# Altium footprint library PCBlib.PcbLib: 19 footprints (part 2 of 2)
Each footprint in its own frame and in the unit in brackets; x right, y up, seen from the top. Pads: shape width x height; smd on the part's side, far side on the other; paste and mask are expansions set on the pad; w line width, h text height; cw(c..) or ccw(c..) is an arc to the next point about the centre after c.
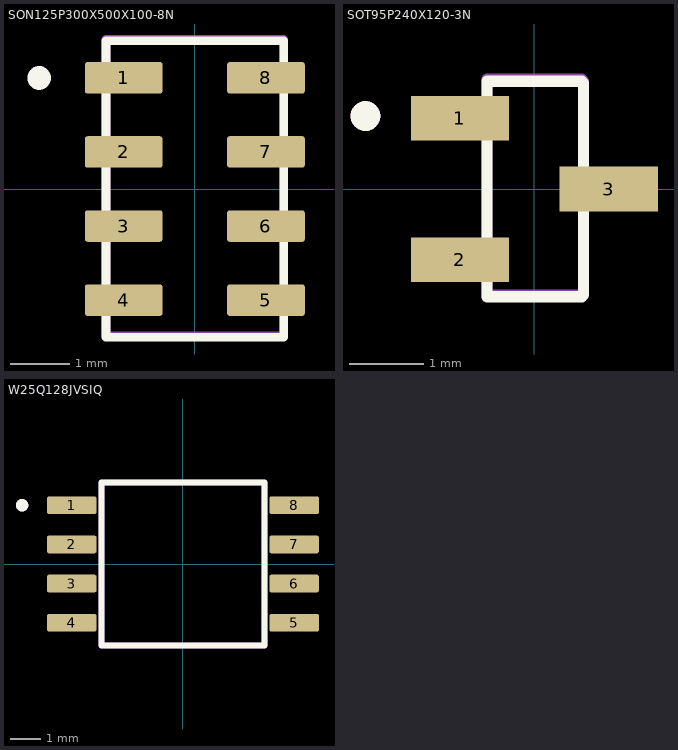
[diagram p1: the footprints below, top view; thin cyan lines are the x and y axes]

## SON125P300X500X100-8N [mm]
pads (8):
  rrect15% 1.31x0.53 smd: 1(-1.2,1.875)
  rrect16% 1.31x0.53 smd: 2(-1.2,0.625) 3(-1.2,-0.625) 4(-1.2,-1.875) 5(1.2,-1.875) 6(1.2,-0.625) 7(1.2,0.625) 8(1.2,1.875)
Top Overlay:
  circle w0.2: c-2.627,1.873 r0.1
  lines w0.15: -1.5,-2.5 1.5,-2.5 1.5,2.5 -1.5,2.5 -1.5,-2.5
Top Assembly:
  lines w0.15: -1.5,-2.475 1.5,-2.475 1.5,2.525 -1.5,2.525 -1.5,-2.475
  text ".Designator" at -2.974,-0.175 h0.6
3D body "MS560702BA03-50.step": height 0.96, standoff 0.01, extent -1.5,-2.525 1.5,2.475

## SOT95P240X120-3N [mm]
height 1.2
pads (3):
  rect 1.32x0.6 smd: 1(-1,0.95) 2(-1,-0.95) 3(1,0)
Top Overlay:
  circle w0.2: c-2.27,0.98 r0.1
  lines w0.15: -0.635,-1.448 -0.635,1.448 0.635,1.448 0.66,1.422 0.66,-1.422 0.635,-1.448 -0.635,-1.448
Top Assembly:
  lines w0.15: -0.635,-1.422 -0.635,1.473 0.635,1.473 0.66,1.448 0.66,-1.397 0.635,-1.422 -0.635,-1.422
  text ".Designator" at -1.999,-0.108 h0.4
Mechanical 13:
  circle w0.2: c-2.27,0.98 r0.1
  lines w0.127: -0.65,-1.45 -0.65,1.45 0.65,1.45 0.65,-1.45 -0.65,-1.45
3D body "MMBT2222A--3DModel-STEP-711646.STEP": height 1.2, standoff -0.1, extent -1.305,-1.52 1.295,1.52

## W25Q128JVSIQ [mm] "IC FLASH 128MBIT SPI/QUAD 8SOIC"
pads (8):
  rrect25% 1.61x0.58 smd: 1(-3.605,1.905) 2(-3.605,0.635) 3(-3.605,-0.635) 4(-3.605,-1.905) 5(3.605,-1.905) 6(3.605,-0.635) 7(3.605,0.635) 8(3.605,1.905)
Top Overlay:
  circle w0.2: c-5.215,1.905 r0.1
  lines w0.127: -2.64,-2.64 2.64,-2.64 ; -2.64,2.64 2.64,2.64
  lines w0.2: -2.64,-2.64 -2.64,2.64 2.64,2.64 2.64,-2.64 -2.64,-2.64
Top Assembly:
  circle w0.2: c-5.215,1.905 r0.1
  lines w0.127: -2.64,-2.64 2.64,-2.64 ; -2.64,2.64 2.64,2.64
  lines w0.2: -2.64,-2.64 -2.64,2.64 2.64,2.64 2.64,-2.64 -2.64,-2.64
  text ".Designator" at -2.499,-0.167 h0.5
Mechanical 13:
  circle w0.2: c-5.215,1.905 r0.1
  lines w0.127: -2.64,-2.64 2.64,-2.64 ; -2.64,2.64 2.64,2.64
3D body "W25Q128JVSIQ.step": height 2.16, standoff 0, extent -3.95,-2.64 3.95,2.64